# Altium schematic symbol library SCH - DIGITAL ISOLATOR - ANALOG DEVICES ADUM4166.SchLib: 1 symbol
Pins are listed as number, name and electrical type; pins without a type are passive.

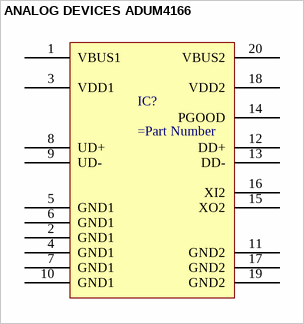
[diagram p0: symbol ANALOG DEVICES ADUM4166]

## ANALOG DEVICES ADUM4166
designator IC?
pins: 1 VBUS1, 2 GND1, 3 VDD1, 4 GND1, 5 GND1, 6 GND1, 7 GND1, 8 UD+, 9 UD-, 10 GND1, 11 GND2, 12 DD+, 13 DD-, 14 PGOOD, 15 XO2, 16 XI2, 17 GND2, 18 VDD2, 19 GND2, 20 VBUS2